# Altium footprint library Cap_Yageo.PcbLib: 7 footprints
Each footprint in its own frame and in the unit in brackets; x right, y up, seen from the top. Pads: shape width x height; smd on the part's side, far side on the other; paste and mask are expansions set on the pad; w line width, h text height; cw(c..) or ccw(c..) is an arc to the next point about the centre after c.
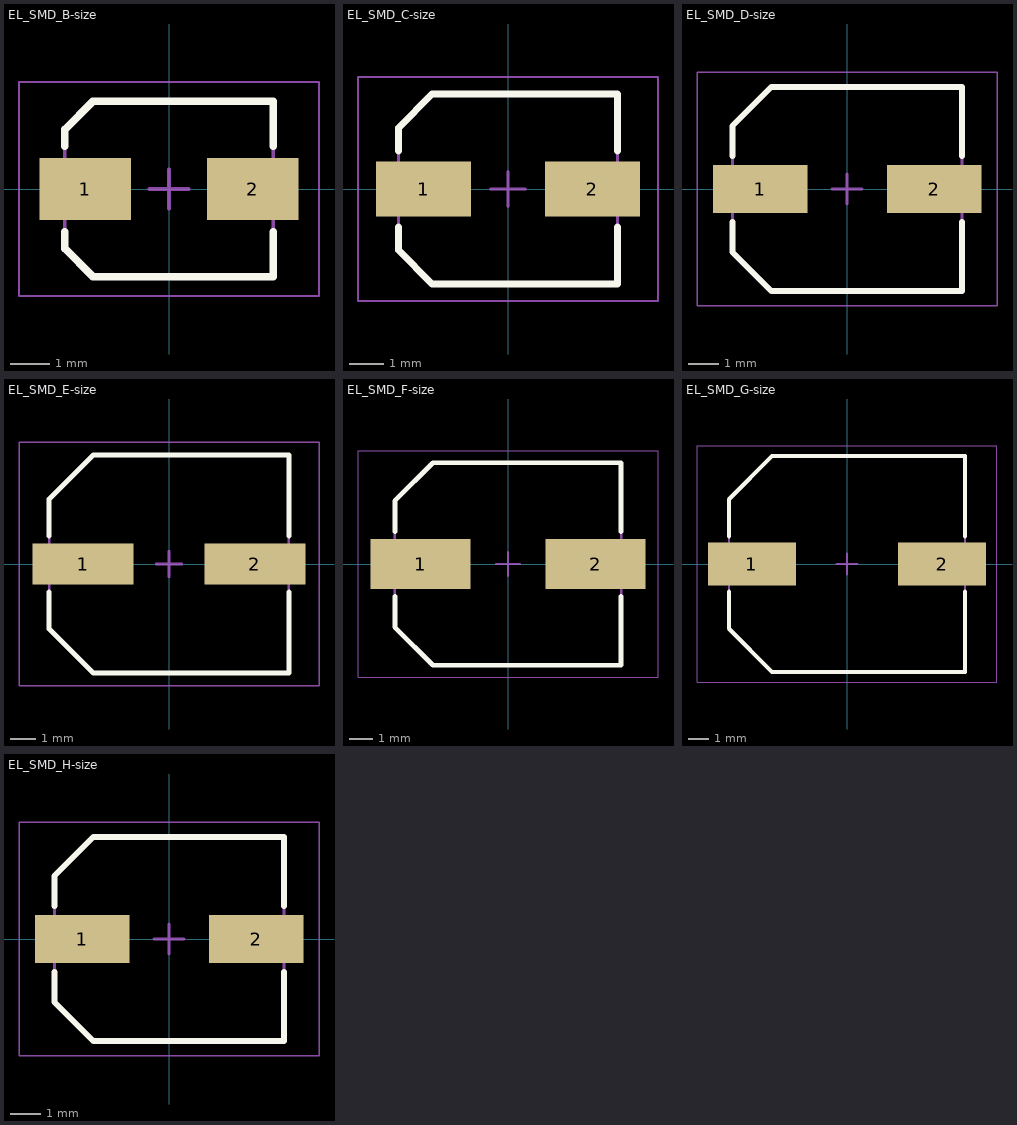
[diagram p0: the footprints below, top view; thin cyan lines are the x and y axes]

## EL_SMD_B-size [mm] "Aluminum Electrolytic Capacitor, Body 5,18x4,30x5,70mm, IPC Medium Density"
height 5.7
pads (2):
  rect 2.35x1.6 smd: 1(-2.15,0) 2(2.15,0)
Top Overlay:
  lines w0.2: -2.675,-1.1 -2.675,-1.525 -1.95,-2.25 2.675,-2.25 2.675,-1.1 ; -2.675,1.1 -2.675,1.525 -1.95,2.25 2.675,2.25 2.675,1.1
Mechanical 13:
  lines w0.1: -2.675,-1.525 -1.95,-2.25 2.675,-2.25 2.675,2.25 -1.95,2.25 -2.675,1.525 -2.675,-1.525
Mechanical 15:
  lines w0.05: -3.85,-2.75 -3.85,2.75 3.85,2.75 3.85,-2.75 -3.85,-2.75
  lines w0.1: -0.5,0 0.5,0 ; 0,-0.5 0,0.5
3D body "CAPAE5643X57N.step": height 5.7, standoff 0, extent -2.775,-2.25 2.775,2.25

## EL_SMD_C-size [mm] "Aluminum Electrolytic Capacitor, Body 6,18x5,30x5,70mm, IPC Medium Density"
height 5.7
pads (2):
  rect 2.75x1.6 smd: 1(-2.45,0) 2(2.45,0)
Top Overlay:
  lines w0.2: -3.175,-1.1 -3.175,-1.775 -2.2,-2.75 3.175,-2.75 3.175,-1.1 ; -3.175,1.1 -3.175,1.775 -2.2,2.75 3.175,2.75 3.175,1.1
Mechanical 13:
  lines w0.1: -3.175,-1.775 -2.2,-2.75 3.175,-2.75 3.175,2.75 -2.2,2.75 -3.175,1.775 -3.175,-1.775
Mechanical 15:
  lines w0.05: -4.35,-3.25 -4.35,3.25 4.35,3.25 4.35,-3.25 -4.35,-3.25
  lines w0.1: -0.5,0 0.5,0 ; 0,-0.5 0,0.5
3D body "CAPAE6653X57N.step": height 5.7, standoff 0, extent -3.275,-2.75 3.275,2.75

## EL_SMD_D-size [mm] "Aluminum Electrolytic Capacitor, Body 7,48x6,60x5,70mm, IPC Medium Density"
height 5.7
pads (2):
  rect 3.15x1.6 smd: 1(-2.9,0) 2(2.9,0)
Top Overlay:
  lines w0.2: -3.825,-1.1 -3.825,-2.1 -2.525,-3.4 3.825,-3.4 3.825,-1.1 ; -3.825,1.1 -3.825,2.1 -2.525,3.4 3.825,3.4 3.825,1.1
Mechanical 13:
  lines w0.1: -3.825,-2.1 -3.825,2.1 -2.525,3.4 3.825,3.4 3.825,-3.4 -2.525,-3.4 -3.825,-2.1
Mechanical 15:
  lines w0.05: -5,-3.9 5,-3.9 5,3.9 -5,3.9 -5,-3.9
  lines w0.1: -0.5,0 0.5,0 ; 0,-0.5 0,0.5
3D body "CAPAE7866X57N.step": height 5.7, standoff -0.6, extent -3.925,-3.4 3.925,3.4

## EL_SMD_E-size [mm] "Aluminum Electrolytic Capacitor, Body 9,18x8,30x7,00mm, IPC Medium Density"
height 7
pads (2):
  rect 3.95x1.6 smd: 1(-3.35,0) 2(3.35,0)
Top Overlay:
  lines w0.2: -4.675,-1.1 -4.675,-2.525 -2.95,-4.25 4.675,-4.25 4.675,-1.1 ; -4.675,1.1 -4.675,2.525 -2.95,4.25 4.675,4.25 4.675,1.1
Mechanical 13:
  lines w0.1: -4.675,-2.525 -4.675,2.525 -2.95,4.25 4.675,4.25 4.675,-4.25 -2.95,-4.25 -4.675,-2.525
Mechanical 15:
  lines w0.05: -5.85,-4.75 5.85,-4.75 5.85,4.75 -5.85,4.75 -5.85,-4.75
  lines w0.1: -0.5,0 0.5,0 ; 0,-0.5 0,0.5
3D body "CAPAE9683X70N.step": height 7, standoff -1, extent -4.775,-4.25 4.775,4.25

## EL_SMD_F-size [mm] "Aluminum Electrolytic Capacitor, Body 9,30x8,30x11,00mm, IPC Medium Density"
height 11
pads (2):
  rect 4.2x2.1 smd: 1(-3.675,0) 2(3.675,0)
Top Overlay:
  lines w0.2: -4.75,-1.35 -4.75,-2.65 -3.15,-4.25 4.75,-4.25 4.75,-1.35 ; -4.75,1.35 -4.75,2.65 -3.15,4.25 4.75,4.25 4.75,1.35
Mechanical 13:
  lines w0.1: -4.75,-2.65 -4.75,2.65 -3.15,4.25 4.75,4.25 4.75,-4.25 -3.15,-4.25 -4.75,-2.65
Mechanical 15:
  lines w0.05: -6.3,-4.75 6.3,-4.75 6.3,4.75 -6.3,4.75 -6.3,-4.75
  lines w0.1: -0.5,0 0.5,0 ; 0,-0.5 0,0.5
3D body "CAPAE10083X110N.step": height 11, standoff 0, extent -5.025,-4.25 5.025,4.25

## EL_SMD_G-size [mm] "Aluminum Electrolytic Capacitor, Body 11,30x10,30x11,00mm, IPC Medium Density"
height 11
pads (2):
  rect 4.3x2.1 smd: 1(-4.625,0) 2(4.625,0)
Top Overlay:
  lines w0.2: -5.75,-1.35 -5.75,-3.15 -3.65,-5.25 5.75,-5.25 5.75,-1.35 ; -5.75,1.35 -5.75,3.15 -3.65,5.25 5.75,5.25 5.75,1.35
Mechanical 13:
  lines w0.1: -5.75,-3.15 -3.65,-5.25 5.75,-5.25 5.75,5.25 -3.65,5.25 -5.75,3.15 -5.75,-3.15
Mechanical 15:
  lines w0.05: -7.3,-5.75 -7.3,5.75 7.3,5.75 7.3,-5.75 -7.3,-5.75
  lines w0.1: -0.5,0 0.5,0 ; 0,-0.5 0,0.5
3D body "CAPAE120103X110N.step": height 11, standoff 0, extent -6.025,-5.25 6.025,5.25

## EL_SMD_H-size [mm] "Aluminum Electrolytic Capacitor, Body 7,48x6,60x8,00mm, IPC Medium Density"
height 8
pads (2):
  rect 3.15x1.6 smd: 1(-2.9,0) 2(2.9,0)
Top Overlay:
  lines w0.2: -3.825,-1.1 -3.825,-2.1 -2.525,-3.4 3.825,-3.4 3.825,-1.1 ; -3.825,1.1 -3.825,2.1 -2.525,3.4 3.825,3.4 3.825,1.1
Mechanical 13:
  lines w0.1: -3.825,-2.1 -2.525,-3.4 3.825,-3.4 3.825,3.4 -2.525,3.4 -3.825,2.1 -3.825,-2.1
Mechanical 15:
  lines w0.05: -5,-3.9 -5,3.9 5,3.9 5,-3.9 -5,-3.9
  lines w0.1: -0.5,0 0.5,0 ; 0,-0.5 0,0.5
3D body "CAPAE7866X80N.step": height 8, standoff 0, extent -3.925,-3.4 3.925,3.4